# EAGLE library part EA_DOGM128-6 (library 1)
LCD Display 128x6 Pixel, Serial Control
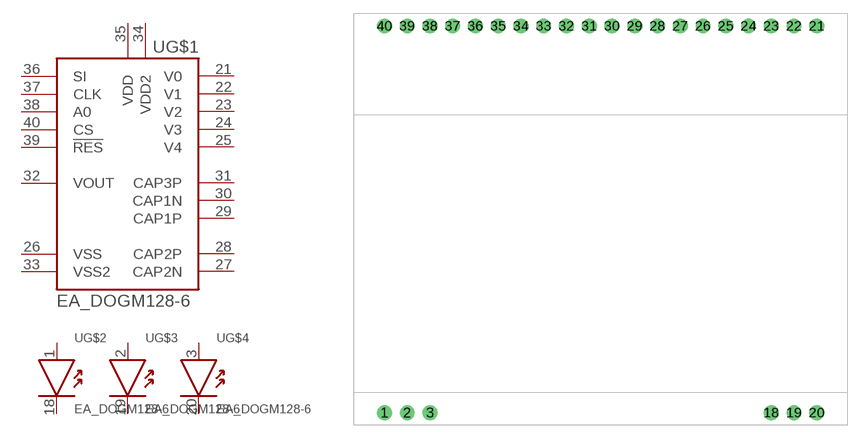
[diagram p11: symbol with the pads of EA_DOGM128-6; footprint EA_DOGM128-6]

Designator prefix -; gates G$1=EA_DOGM128-6 G$2=LED G$3=LED G$4=LED

## EA_DOGM128-6  [EA_DOGM128-6]
1  G$2:A
2  G$3:A
3  G$4:A
18  G$2:C
19  G$3:C
20  G$4:C
21  G$1:V0
22  G$1:V1
23  G$1:V2
24  G$1:V3
25  G$1:V4
26  G$1:VSS
27  G$1:CAP2N
28  G$1:CAP2P
29  G$1:CAP1P
30  G$1:CAP1N
31  G$1:CAP3P
32  G$1:VOUT
33  G$1:VSS2
34  G$1:VDD2
35  G$1:VDD
36  G$1:SI
37  G$1:CLK
38  G$1:A0
39  G$1:!RES
40  G$1:CS

## Footprint EA_DOGM128-6 (pad centres in mm)
drill 0.889 pad 1.651: 1 -24.13,-21.59; 2 -21.59,-21.59; 3 -19.05,-21.59; 18 19.05,-21.59; 19 21.59,-21.59; 20 24.13,-21.59; 21 24.13,21.59; 22 21.59,21.59; 23 19.05,21.59; 24 16.51,21.59; 25 13.97,21.59; 26 11.43,21.59; 27 8.89,21.59; 28 6.35,21.59; 29 3.81,21.59; 30 1.27,21.59; 31 -1.27,21.59; 32 -3.81,21.59; 33 -6.35,21.59; 34 -8.89,21.59; 35 -11.43,21.59; 36 -13.97,21.59; 37 -16.51,21.59; 38 -19.05,21.59; 39 -21.59,21.59; 40 -24.13,21.59